# EAGLE library part ARDUINO_PRO_MINI (library mylib)
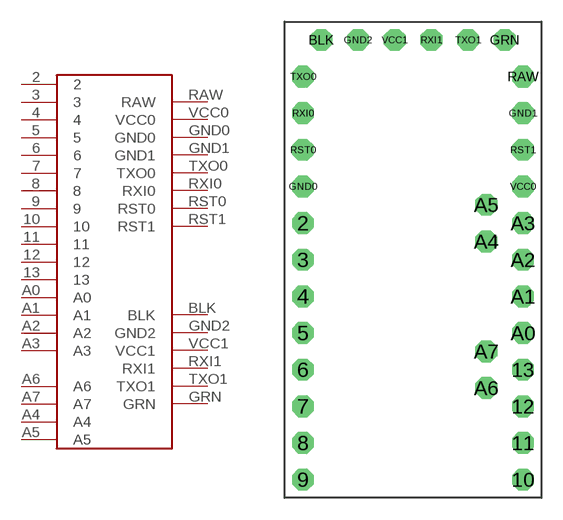
[diagram p7: symbol with the pads of ARDUINO_PRO_MINI; footprint ARDUINO_PRO_MINI]

Designator prefix -

## ARDUINO_PRO_MINI  [ARDUINO_PRO_MINI]
2  2
3  3
4  4
5  5
6  6
7  7
8  8
9  9
10  10
11  11
12  12
13  13
A0  A0
A1  A1
A2  A2
A3  A3
A4  A4
A5  A5
A6  A6
A7  A7
BLK  BLK
GND0  GND0
GND1  GND1
GND2  GND2
GRN  GRN
RAW  RAW
RST0  RST0
RST1  RST1
RXI0  RXI0
RXI1  RXI1
TXO0  TXO0
TXO1  TXO1
VCC0  VCC0
VCC1  VCC1

## Footprint ARDUINO_PRO_MINI (pad centres in mm)
drill 1 octagon: 2 -7.62,3.81; 3 -7.62,1.27; 4 -7.62,-1.27; 5 -7.62,-3.81; 6 -7.62,-6.35; 7 -7.62,-8.89; 8 -7.62,-11.43; 9 -7.62,-13.97; 10 7.62,-13.97; 11 7.62,-11.43; 12 7.62,-8.89; 13 7.62,-6.35; A0 7.62,-3.81; A1 7.62,-1.27; A2 7.62,1.27; A3 7.62,3.81; A4 5.08,2.54; A5 5.08,5.08; A6 5.08,-7.62; A7 5.08,-5.08; BLK -6.35,16.51; GND0 -7.62,6.35; GND1 7.62,11.43; GND2 -3.81,16.51; GRN 6.35,16.51; RAW 7.62,13.97; RST0 -7.62,8.89; RST1 7.62,8.89; RXI0 -7.62,11.43; RXI1 1.27,16.51; TXO0 -7.62,13.97; TXO1 3.81,16.51; VCC0 7.62,6.35; VCC1 -1.27,16.51